# Altium footprint library CAS_SMPS.PcbLib: 7 footprints
Each footprint in its own frame and in the unit in brackets; x right, y up, seen from the top. Pads: shape width x height; smd on the part's side, far side on the other; paste and mask are expansions set on the pad; w line width, h text height; cw(c..) or ccw(c..) is an arc to the next point about the centre after c.
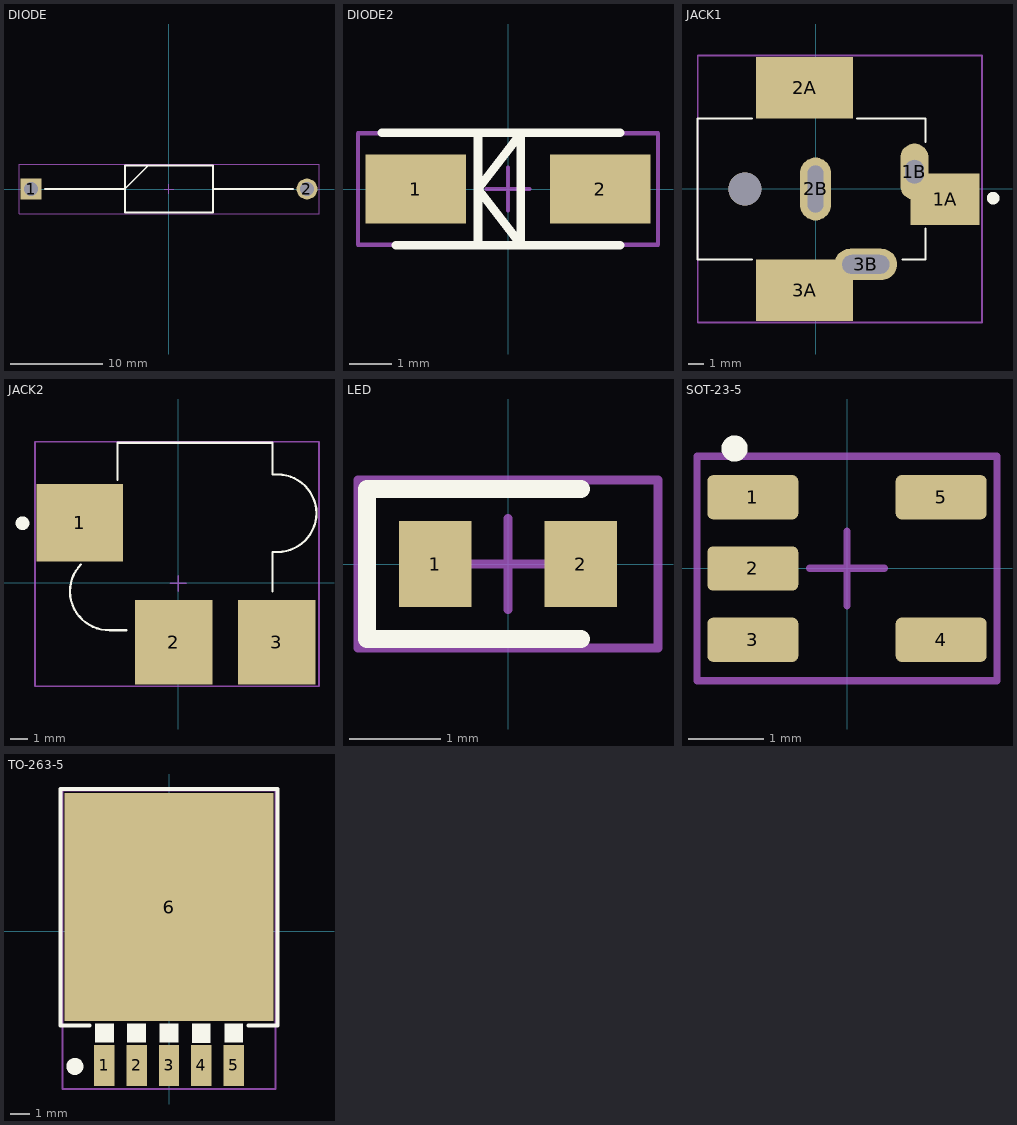
[diagram p0: the footprints below, top view; thin cyan lines are the x and y axes]

## DIODE [mm]
pads (2):
  rect 2.25x2.25 hole 1.5: 1(-14.9,0)
  round 2.25 hole 1.5: 2(14.9,0)
Top Overlay:
  lines w0.2: -13.425,0 -4.762,0 -2.222,2.54 ; 4.762,0 13.425,0 ; -4.762,-2.54 -4.762,2.54 4.762,2.54 4.762,-2.54 -4.762,-2.54
Top Component Center:
  lines w0.1: -0.5,0 0.5,0 ; 0,-0.5 0,0.5 ; -16.2,-2.7 -16.2,0.4 -16.2,2.7 16.2,2.7 16.2,-2.7 -16.2,-2.7
Top Designator:
  lines w0.1: -16.2,-2.7 -16.2,0.4 -16.2,2.7 16.2,2.7 16.2,-2.7 -16.2,-2.7
  text "'.Designator'" at -3.246,-0.738 h1.52
3D body "1N5822.stp": height 5.33, standoff -5.33, extent -15.555,-2.665 15.605,2.665

## DIODE2 [mm]
pads (2):
  rect 2.35x1.6 smd: 1(-2.15,0) 2(2.15,0)
Top Overlay:
  lines w0.2: -2.95,1.31 2.615,1.31 ; -2.615,-1.31 2.615,-1.31 ; -0.7,-1.3 -0.7,1.3 ; -0.7,0 0.3,1.3 0.3,-1.3 -0.7,0
Top Component Center:
  lines w0.1: -0.5,0 0.5,0 ; 0,-0.5 0,0.5 ; -3.5,-1.3 -3.5,1.3 -2.8,1.3 3.5,1.3 3.5,-1.3 -3.5,-1.3
Top Designator:
  lines w0.1: -3.5,-1.3 -3.5,1.3 -2.8,1.3 3.5,1.3 3.5,-1.3 -3.5,-1.3
  text "'.Designator'" at -2.05,-0.4 h0.75
3D body "S1GTR.stp": height 2.95, standoff 0, extent -2.615,-1.31 2.615,1.31

## JACK1 [mm]
pads (7):
  rect 4.4x3.3 smd: 1A(8.25,-0.65)
  oval 1.8x3.6 hole 1.2 slot 1.5 at 90 deg: 1B(6.3,1.1)
  rect 6.2x3.9 smd: 2A(-0.7,6.45) 3A(-0.7,-6.45)
  oval 2x4 hole 1 slot 3 at 90 deg: 2B(0,0)
  oval 4x2 hole 1.2 slot 3 at 0 deg: 3B(3.2,-4.8)
  round 2.1 hole 2.1 unplated: ""(-4.5,0)
Top Overlay:
  circle w0.4: c11.31,-0.58 r0.2
  lines w0.127: -4.05,-4.5 -7.5,-4.5 -7.5,4.5 -4.05,4.5 ; 2.65,4.5 7,4.5 7,3 ; 5.55,-4.5 7,-4.5 7,-2.5
Top Component Center:
  lines w0.1: -0.5,0 0.5,0 ; 0,-0.5 0,0.5 ; -7.5,-8.5 10.6,-8.5 10.6,8.5 -3.6,8.5 -7.5,8.5 -7.5,-8.5
Top Designator:
  lines w0.1: -7.5,-8.5 10.6,-8.5 10.6,8.5 -3.6,8.5 -7.5,8.5 -7.5,-8.5
  text "'.Designator'" at -3.246,-0.638 h1.52
3D body "CUI_DEVICES_PJ-037AH-SMT-TR.step": height 11, standoff -3.4, extent -7.4,-7.6 9.7,7.6

## JACK2 [mm]
pads (3):
  rect 5x4.5 smd: 1(-5.725,3.475)
  rect 4.5x4.9 smd: 2(-0.275,-3.475) 3(5.725,-3.475)
Top Overlay:
  circle w0.4: c-9.055,3.445 r0.2
  lines w0.127: -6.295,-0.54 ccw(c-4.02,-0.5) -3.98,-2.775 ; -6.295,-0.513 cw(c-4.08,-0.513) -5.646,1.054 ; -3.995,-2.775 -3.025,-2.775 ; -3.525,5.975 -3.525,8.125 5.475,8.125 5.475,6.275 5.775,6.275 cw(c5.775,4.025) 8.025,4.025 cw(c5.775,4.025) 5.775,1.775 5.475,1.775 5.475,-0.525
Top Component Center:
  lines w0.1: -0.45,-0.05 0.45,-0.05 ; 0,-0.5 0,0.4 ; -8.325,-6.025 -8.325,3.675 -8.325,8.175 8.175,8.175 8.175,-6.025 -8.325,-6.025
Top Designator:
  lines w0.1: -8.325,-6.025 -8.325,3.675 -8.325,8.175 8.175,8.175 8.175,-6.025 -8.325,-6.025
  text "'.Designator'" at -3.346,-0.638 h1.52
3D body "step_temp.STEP": height 14.1, standoff -0.2, extent -7.275,-5.425 8.125,8.125

## LED [mm]
pads (2):
  rect 0.8x0.95 smd: 1(-0.8,0) 2(0.8,0)
Top Overlay:
  lines w0.2: 0.8,-0.825 -1.55,-0.825 -1.55,0.825 0.8,0.825
Top Component Center:
  lines w0.1: -0.5,0 0.5,0 ; 0,-0.5 0,0.5 ; -1.65,-0.925 1.65,-0.925 1.65,0.925 -1.65,0.925 -1.65,-0.925
Top Designator:
  lines w0.1: -1.65,-0.925 -1.65,0.925 1.65,0.925 1.65,-0.925 -1.65,-0.925
  text "'.Designator'" at -1.35,-0.4 h0.75
3D body "APT1608SGC.stp": height 0.76, standoff 0, extent -0.8,-0.4 0.8,0.4

## SOT-23-5 [mm]
pads (5):
  rrect25% 1.21x0.59 smd: 1(-1.255,0.95) 2(-1.255,0) 3(-1.255,-0.95) 4(1.255,-0.95) 5(1.255,0.95)
Top Overlay:
  circle w0.2: c-1.5,1.6 r0.075
Top Component Center:
  lines w0.1: -0.5,0 0.5,0 ; 0,-0.5 0,0.5 ; -2,-1.5 2,-1.5 2,1.5 -1.1,1.5 -2,1.5 -2,-1.5
Top Designator:
  lines w0.1: -2,-1.5 2,-1.5 2,1.5 -1.1,1.5 -2,1.5 -2,-1.5
  text "'.Designator'" at -1.74,-0.373 h0.8
3D body "CircuitWorks-SOT-23-5.step": height 1.07, standoff -0.02, extent -1.05,-1.5 1.45,1.5

## TO-263-5 [mil]
pads (6):
  rect 42x85 smd: 1(-134,-278) 2(-67,-278) 3(0,-278) 4(67,-278) 5(134,-278)
  rect 433.07x472.44 smd: 6(0,50)
Top Overlay:
  circle w19.68: c-195,-280 r7.87
  region: -115,-230.23 -153.16,-230.23 -153.16,-192 -115,-192
  region: -48,-230.37 -86.14,-230.37 -86.14,-192 -48,-192
  region: 19,-230.02 -19,-230.02 -19,-192 19,-192
  region: 86,-230.44 48.09,-230.44 48.09,-192 86,-192
  region: 153,-230.39 115.19,-230.39 115.19,-192 153,-192
  lines w7.87: -165,-195 -225,-195 -225,295 -220,295 225,295 225,-195 165,-195
Top Component Center:
  lines w3.94: -17.72,-1.97 17.72,-1.97 ; 0,-19.68 0,15.75 ; -220.47,-326.77 -220.47,291.34 220.47,291.34 220.47,-326.77 -220.47,-326.77
Top Designator:
  lines w3.94: -220.47,-326.77 -220.47,291.34 220.47,291.34 220.47,-326.77 -220.47,-326.77
  text "'.Designator'" at -151.42,-25.12 h60
3D body "User Library-TO263-5.STEP": height 188.3, standoff -0.68, extent -196.85,-318.5 196.85,298.43